# Altium footprint library Разъемы-mm.PcbLib: 96 footprints (part 5 of 6)
Each footprint in its own frame and in the unit in brackets; x right, y up, seen from the top. Pads: shape width x height; smd on the part's side, far side on the other; paste and mask are expansions set on the pad; w line width, h text height; cw(c..) or ccw(c..) is an arc to the next point about the centre after c.
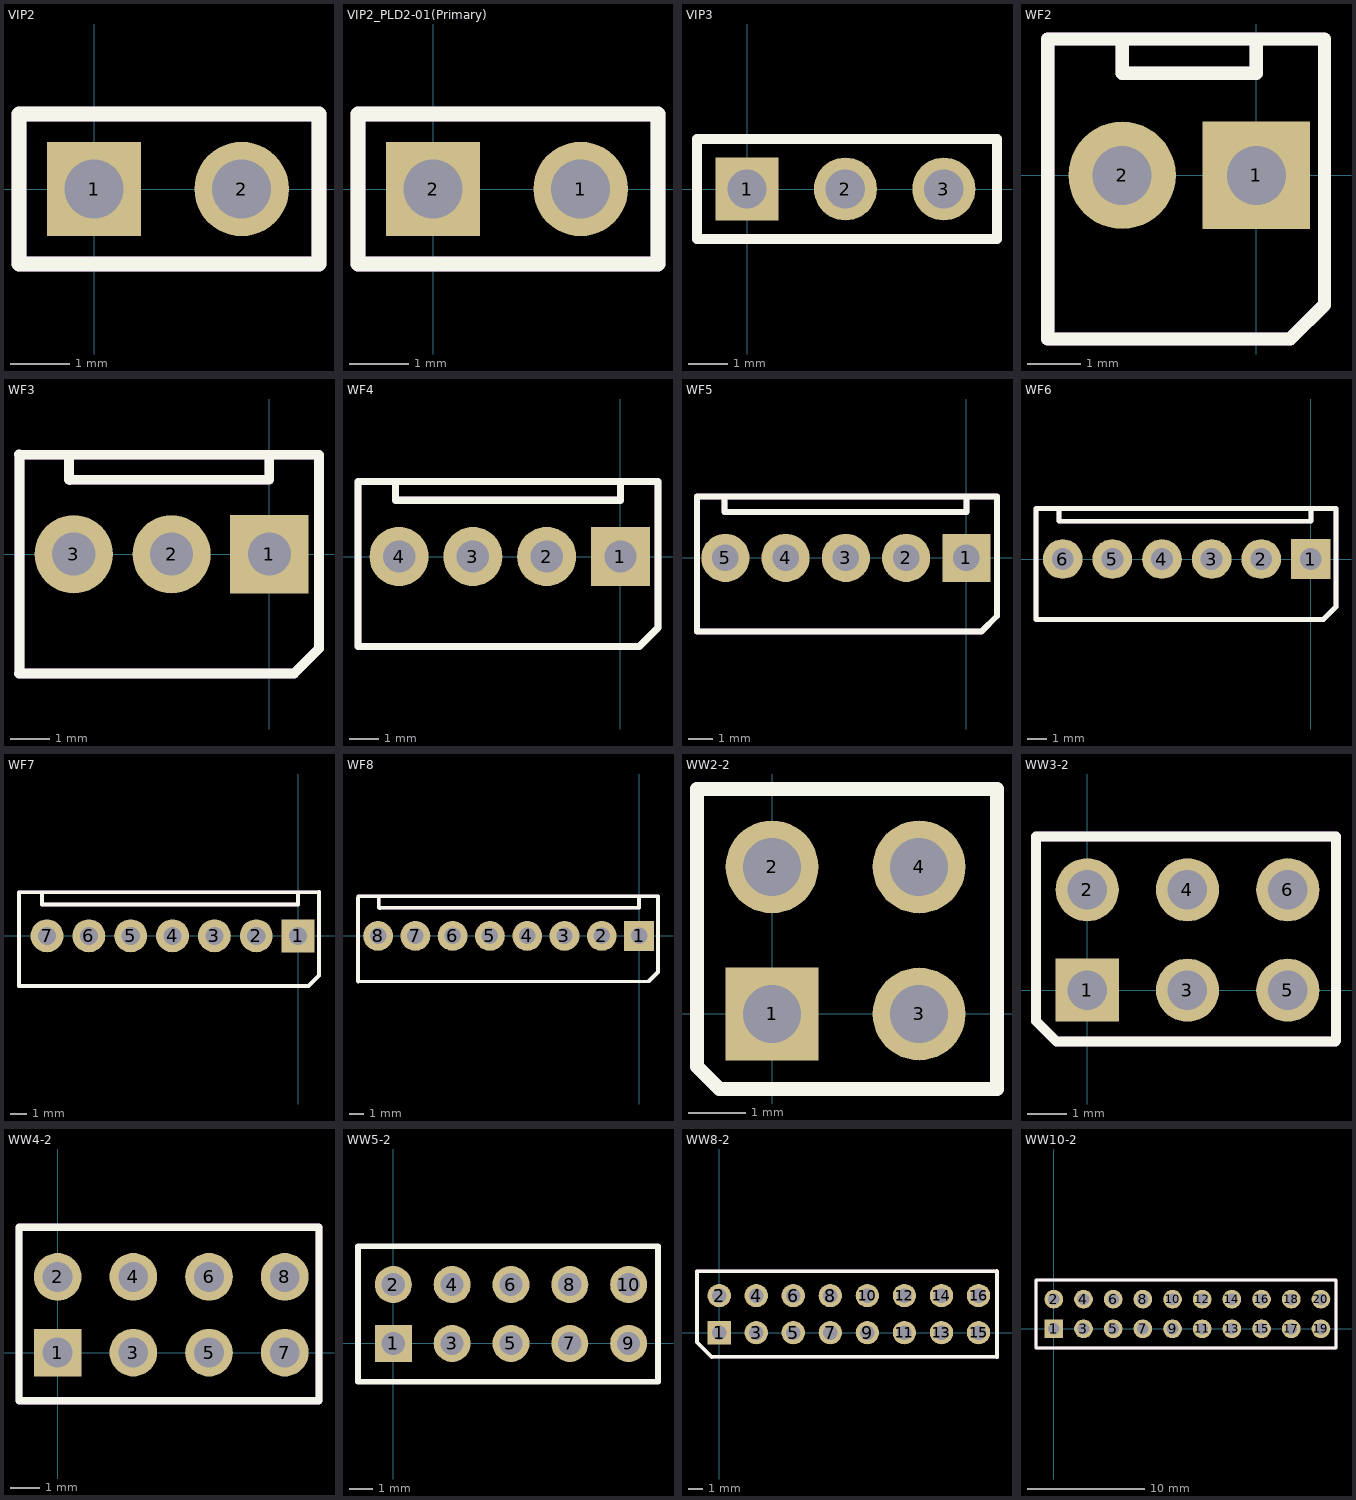
[diagram p4: the footprints below, top view; thin cyan lines are the x and y axes]

## VIP2 [mm]
pads (2):
  rect 1.6x1.6 hole 1: 1(0,0)
  round 1.6 hole 1: 2(2.5,0)
Top Overlay:
  lines w0.25: -1.27,-1.27 3.81,-1.27 3.81,1.27 -1.27,1.27 -1.27,-1.27
Mechanical 1:
  lines w0.25: -1.27,-1.27 3.81,-1.27 3.81,1.27 -1.27,1.27 -1.27,-1.27
  text "1" at -1.358,-0.846 h0.79

## VIP2_PLD2-01(Primary) [mm]
pads (2):
  round 1.6 hole 1: 1(2.5,0)
  rect 1.6x1.6 hole 1: 2(0,0)
Top Overlay:
  lines w0.25: -1.27,-1.27 3.81,-1.27 3.81,1.27 -1.27,1.27 -1.27,-1.27
Mechanical 1:
  lines w0.25: -1.27,-1.27 3.81,-1.27 3.81,1.27 -1.27,1.27 -1.27,-1.27
  text "1" at -1.358,-0.846 h0.79

## VIP3 [mm]
pads (3):
  rect 1.6x1.6 hole 1: 1(0,0)
  round 1.6 hole 1: 2(2.5,0) 3(5,0)
Top Overlay:
  lines w0.25: -1.27,-1.27 6.35,-1.27 6.35,1.27 -1.27,1.27 -1.27,-1.27
Mechanical 1:
  lines w0.25: -1.27,-1.27 6.35,-1.27 6.35,1.27 -1.27,1.27 -1.27,-1.27
  text "1" at -1.358,-0.846 h0.79

## WF2 [mm]
pads (2):
  rect 2x2 hole 1.1: 1(0,0)
  round 2 hole 1.1: 2(-2.5,0)
Top Overlay:
  lines w0.25: -3.89,-3.05 0.635,-3.048 1.27,-2.413 1.27,2.54 -3.885,2.54 ; -3.888,-3.048 -3.888,2.54 ; -2.495,1.905 -2.495,2.54 ; -2.49,1.905 0,1.905 0,2.54
Mechanical 1:
  lines w0.25: -3.89,-3.05 0.635,-3.048 1.27,-2.413 1.27,2.54 -3.885,2.54 ; -3.888,-3.048 -3.888,2.54 ; -2.495,1.905 -2.495,2.54 ; -2.49,1.905 0,1.905 0,2.54

## WF3 [mm]
pads (3):
  rect 2x2 hole 1.1: 1(0,0)
  round 2 hole 1.1: 2(-2.5,0) 3(-5,0)
Top Overlay:
  lines w0.25: -6.4,-3.05 0.635,-3.048 1.27,-2.413 1.27,2.54 -6.4,2.55 ; -6.39,-3.048 -6.39,2.54 ; -5.12,1.905 -5.12,2.54 ; -5.1,1.9 0,1.905 0,2.54
Mechanical 1:
  lines w0.25: -6.4,-3.05 0.635,-3.048 1.27,-2.413 1.27,2.54 -6.4,2.55 ; -6.39,-3.048 -6.39,2.54 ; -5.12,1.905 -5.12,2.54 ; -5.1,1.9 0,1.905 0,2.54

## WF4 [mm]
pads (4):
  rect 2x2 hole 1.1: 1(0,0)
  round 2 hole 1.1: 2(-2.5,0) 3(-5,0) 4(-7.5,0)
Top Overlay:
  lines w0.25: -7.62,2.54 -7.62,1.905 0,1.905 0,2.54 ; -8.89,-3.048 0.635,-3.048 1.27,-2.413 1.27,2.54 -8.89,2.54 -8.89,-3.048
Mechanical 1:
  lines w0.25: -7.62,2.54 -7.62,1.905 0,1.905 0,2.54 ; -8.89,-3.048 0.635,-3.048 1.27,-2.413 1.27,2.54 -8.89,2.54 -8.89,-3.048

## WF5 [mm]
pads (5):
  rect 2x2 hole 1.1: 1(0,0)
  round 2 hole 1.1: 2(-2.5,0) 3(-5,0) 4(-7.5,0) 5(-10,0)
Top Overlay:
  lines w0.25: -11.178,-3.048 -11.178,2.54 ; -11.176,-3.048 0.635,-3.048 1.27,-2.413 1.27,2.54 -11.176,2.54 ; -10.033,2.54 -10.033,1.905 0,1.905 0,2.54
Mechanical 1:
  lines w0.25: -11.178,-3.048 -11.178,2.54 ; -11.176,-3.048 0.635,-3.048 1.27,-2.413 1.27,2.54 -11.176,2.54 ; -10.033,2.54 -10.033,1.905 0,1.905 0,2.54

## WF6 [mm]
pads (6):
  rect 2x2 hole 1.1: 1(0,0)
  round 2 hole 1.1: 2(-2.5,0) 3(-5,0) 4(-7.5,0) 5(-10,0) 6(-12.5,0)
Top Overlay:
  lines w0.25: -13.85,-3.05 0.635,-3.048 1.27,-2.413 1.27,2.54 -13.85,2.55 ; -13.845,-3.048 -13.845,2.54 ; -12.7,2.54 -12.7,1.905 0,1.905 0,2.54
Mechanical 1:
  lines w0.25: -13.85,-3.05 0.635,-3.048 1.27,-2.413 1.27,2.54 -13.85,2.55 ; -13.845,-3.048 -13.845,2.54 ; -12.7,2.54 -12.7,1.905 0,1.905 0,2.54

## WF7 [mm]
pads (7):
  rect 2x2 hole 1.1: 1(0,0)
  round 2 hole 1.1: 2(-2.54,0) 3(-5.08,0) 4(-7.62,0) 5(-10.16,0) 6(-12.7,0) 7(-15.24,0)
Top Overlay:
  lines w0.25: -16.94,-3.048 -16.94,2.54 ; -16.93,2.64 1.27,2.665 ; -16.891,-3.048 0.635,-3.048 1.27,-2.413 1.27,2.54 ; -15.545,1.905 -15.545,2.54 ; -15.494,1.905 0,1.905 0,2.54
Mechanical 1:
  lines w0.25: -16.94,-3.048 -16.94,2.54 ; -16.935,2.63 1.27,2.665 ; -16.891,-3.048 0.635,-3.048 1.27,-2.413 1.27,2.54 ; -15.545,1.905 -15.545,2.54 ; -15.494,1.905 0,1.905 0,2.54

## WF8 [mm]
pads (8):
  rect 2x2 hole 1.1: 1(0,0)
  round 2 hole 1.1: 2(-2.5,0) 3(-5,0) 4(-7.5,0) 5(-10,0) 6(-12.5,0) 7(-15,0) 8(-17.5,0)
Top Overlay:
  lines w0.25: -18.845,-3.048 -18.845,2.54 ; -18.835,-3.08 0.635,-3.048 1.27,-2.413 1.27,2.54 ; -18.835,2.635 1.27,2.665 ; -17.45,1.905 -17.45,2.54 ; -17.375,1.875 0,1.905 0,2.54
Mechanical 1:
  lines w0.25: -18.845,-3.048 -18.845,2.54 ; -18.835,-3.08 0.635,-3.048 1.27,-2.413 1.27,2.54 ; -18.835,2.635 1.27,2.665 ; -17.45,1.905 -17.45,2.54 ; -17.375,1.875 0,1.905 0,2.54

## WW2-2 [mm]
pads (4):
  rect 1.6x1.6 hole 1: 1(0,0)
  round 1.6 hole 1: 2(0,2.54) 3(2.54,0) 4(2.54,2.54)
Top Overlay:
  lines w0.25: -1.295,-0.907 -1.295,3.886 3.886,3.886 3.886,-1.295 -0.907,-1.295 -1.295,-0.907
Mechanical 1:
  lines w0.25: -1.295,-0.907 -1.295,3.886 3.886,3.886 3.886,-1.295 -0.907,-1.295 -1.295,-0.907
  text "2" at -1.358,1.694 h0.79
  text "1" at -1.358,-1.1 h0.79

## WW3-2 [mm]
pads (6):
  rect 1.6x1.6 hole 1: 1(0,0)
  round 1.6 hole 1: 2(0,2.54) 3(2.54,0) 4(2.54,2.54) 5(5.08,0) 6(5.08,2.54)
Top Overlay:
  lines w0.25: 6.29,-1.3 0,-1.295 -0.777,-1.295 -1.295,-0.777 -1.295,0 -1.295,3.886 6.29,3.89 ; 6.297,-1.275 6.3,3.89
Mechanical 1:
  lines w0.25: 6.29,-1.3 0,-1.295 -0.777,-1.295 -1.295,-0.777 -1.295,0 -1.295,3.886 6.29,3.89 ; 6.297,-1.275 6.3,3.89
  text "2" at -1.358,1.694 h0.79
  text "1" at -1.358,-1.1 h0.79

## WW4-2 [mm]
pads (8):
  rect 1.6x1.6 hole 1: 1(0,0)
  round 1.6 hole 1: 2(0,2.54) 3(2.54,0) 4(2.54,2.54) 5(5.08,0) 6(5.08,2.54) 7(7.62,0) 8(7.62,2.54)
Top Overlay:
  lines w0.25: -1.295,4.21 -1.295,-1.619 8.76,-1.62 ; -1.29,4.21 8.758,4.21 ; 8.768,-1.619 8.768,4.21
Mechanical 1:
  lines w0.25: -1.295,4.21 -1.295,-1.619 8.76,-1.62 ; -1.29,4.21 8.758,4.21 ; 8.768,-1.619 8.768,4.21
  text "2" at -1.358,1.694 h0.79
  text "1" at -1.358,-1.1 h0.79

## WW5-2 [mm]
pads (10):
  rect 1.6x1.6 hole 1: 1(0,0)
  round 1.6 hole 1: 2(0,2.54) 3(2.54,0) 4(2.54,2.54) 5(5.08,0) 6(5.08,2.54) 7(7.62,0) 8(7.62,2.54) 9(10.16,0) 10(10.16,2.54)
Top Overlay:
  lines w0.25: 11.42,-1.65 -1.524,-1.651 -1.524,4.191 11.42,4.19 ; 11.428,-1.651 11.428,4.191
Mechanical 1:
  text "2" at -1.612,1.694 h0.79
  text "1" at -1.612,-0.846 h0.79

## WW8-2 [mm]
pads (16):
  rect 1.6x1.6 hole 1: 1(0,0)
  round 1.6 hole 1: 2(0,2.54) 3(2.54,0) 4(2.54,2.54) 5(5.08,0) 6(5.08,2.54) 7(7.62,0) 8(7.62,2.54) 9(10.16,0) 10(10.16,2.54) 11(12.7,0) 12(12.7,2.54) 13(15.24,0) 14(15.24,2.54) 15(17.78,0) 16(17.78,2.54)
Top Overlay:
  lines w0.25: 19.04,-1.66 -0.517,-1.667 -1.523,-0.661 -1.523,4.216 19.04,4.22 ; 19.047,-1.667 19.047,4.216
Mechanical 1:
  lines w0.25: 19.04,-1.66 -0.517,-1.667 -1.523,-0.661 -1.523,4.216 19.04,4.22 ; 19.047,-1.667 19.047,4.216
  text "2" at -1.617,1.862 h0.79
  text "1" at -1.566,-0.803 h0.79

## WW10-2 [mm]
pads (20):
  rect 1.6x1.6 hole 1: 1(0,0)
  round 1.6 hole 1: 2(0,2.54) 3(2.54,0) 4(2.54,2.54) 5(5.08,0) 6(5.08,2.54) 7(7.62,0) 8(7.62,2.54) 9(10.16,0) 10(10.16,2.54) 11(12.7,0) 12(12.7,2.54) 13(15.24,0) 14(15.24,2.54) 15(17.78,0) 16(17.78,2.54) 17(20.32,0) 18(20.32,2.54) 19(22.86,0) 20(22.86,2.54)
Top Overlay:
  lines w0.25: 24.14,-1.65 -1.524,-1.651 -1.524,4.191 24.14,4.19 ; 24.146,-1.641 24.15,4.19
Mechanical 1:
  lines w0.25: 24.14,-1.65 -1.524,-1.651 -1.524,4.191 24.14,4.19 ; 24.146,-1.641 24.15,4.19
  text "2" at -1.612,1.694 h0.79
  text "1" at -1.612,-0.846 h0.79